# EAGLE library part TG32-3506ND (library halo-electronics)
TRANSFORMER SMD 10/100 Isolation Transformer
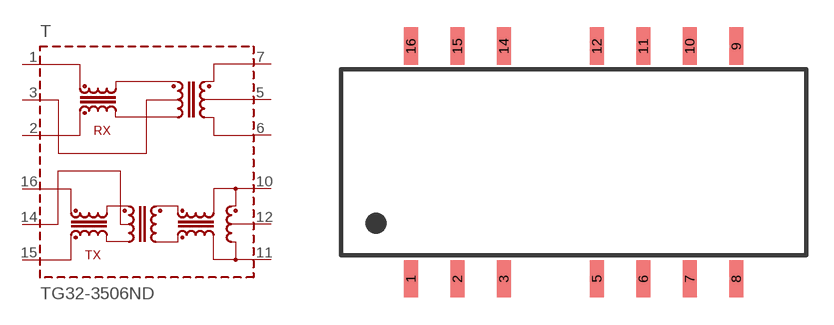
[diagram p0: symbol with the pads of ND-16; footprint ND-16]

Designator prefix T

## TG32-3506ND  [ND-16]
1  1  pas
2  2  pas
3  3  pas
5  5  pas
6  6  pas
7  7  pas
10  10  pas
11  11  pas
12  12  pas
14  14  pas
15  15  pas
16  16  pas

## Footprint ND-16 (pad centres in mm)
smd 0.762 x 2.032: 1 -8.89,-6.35; 2 -6.35,-6.35; 3 -3.81,-6.35; 5 1.27,-6.35; 6 3.81,-6.35; 7 6.35,-6.35; 8 8.89,-6.35; 9 8.89,6.35; 10 6.35,6.35; 11 3.81,6.35; 12 1.27,6.35; 14 -3.81,6.35; 15 -6.35,6.35; 16 -8.89,6.35